# Altium schematic symbol library misc_connectors.SchLib: 8 symbols
Pins are listed as number, name and electrical type; pins without a type are passive.

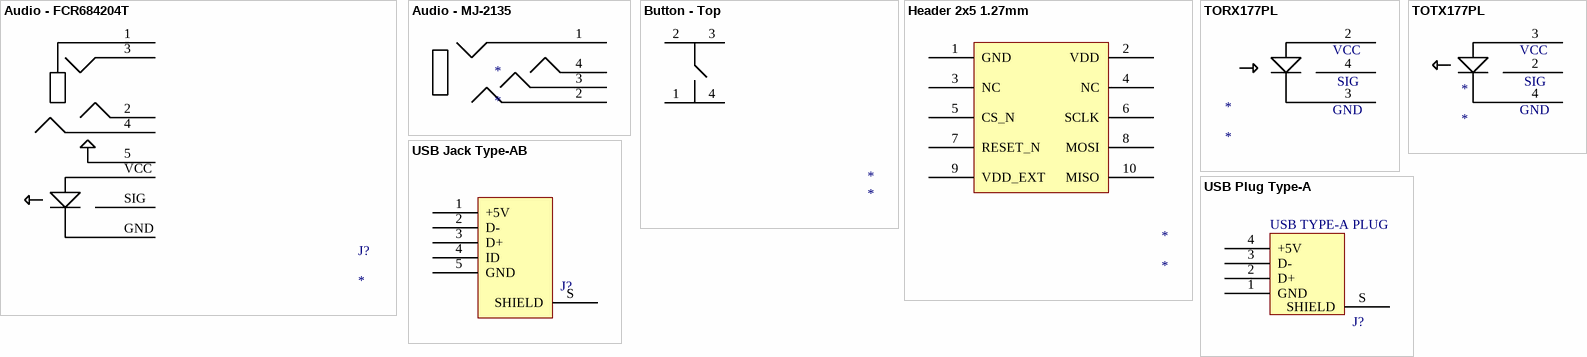
[diagram p0: symbols Audio - FCR684204T to USB Plug Type-A]

## Audio - FCR684204T
designator J?
Combo audio jack
footprint AUDIO_FCR684204T (Cliff Electronics OTJ-4 combo jack)
pins: 1, 2, 3, 4, 5, GND, SIG, VCC

## Audio - MJ-2135
designator *
3.5mm Audio jack
footprint AUDIO_MJ-2135 (Multicomp Pro MJ-2135)
pins: 1, 2, 3, 4

## Button - Top
designator *
Panasonic EVQQ2201W
footprint BUTTON_EVQQ2201W (BUTTON_TOP)
pins: 1, 2, 3, 4

## Header 2x5 1.27mm
designator *
2x5 1.27mm Header
footprint 2x5 1.27mm header
pins: 1 GND, 2 VDD, 3 NC, 4 NC, 5 CS_N, 6 SCLK, 7 RESET_N, 8 MOSI, 9 VDD_EXT, 10 MISO

## TORX177PL
designator *
Fiber Optics - Receiver
footprint TOXX177PL (SPDIF R/T)
pins: 2 VCC, 3 GND, 4 SIG

## TOTX177PL
designator *
Fiber Optics - Transmitters
footprint TOXX177PL (SPDIF R/T)
pins: 2 SIG, 3 VCC, 4 GND

## USB Jack Type-AB
designator J?  (value not drawn)
USB Type-AB jack
footprint USB_MICRO_TYPE_AB_JACK_EDGE (Molex mirco USB AB REC. 47589-0001)
pins: 1 +5V, 2 D-, 3 D+, 4 ID, 5 GND, S SHIELD

## USB Plug Type-A
designator J?
USB - A USB 2.0 Plug Connector 4 Position Through Hole, Right Angle
footprint USB_TYPE_A_PLUG_EDGE
pins: 1 GND, 2 D+, 3 D-, 4 +5V, S SHIELD
text: USB TYPE-A PLUG